# Altium schematic symbol library LM5023.Schlib: 1 symbol
Pins are listed as number, name and electrical type; pins without a type are passive.

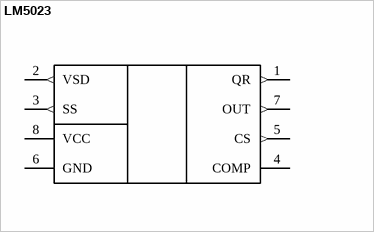
[diagram p0: symbol LM5023]

## LM5023
designator DD?
Driver
pins: 1 QR (out), 2 VSD (out), 3 SS (out), 4 COMP (power), 5 CS (out), 6 GND (power), 7 OUT (out), 8 VCC (power)